# Altium footprint library BMP.PcbLib: 1 footprints
Each footprint in its own frame and in the unit in brackets; x right, y up, seen from the top. Pads: shape width x height; smd on the part's side, far side on the other; paste and mask are expansions set on the pad; w line width, h text height; cw(c..) or ccw(c..) is an arc to the next point about the centre after c.
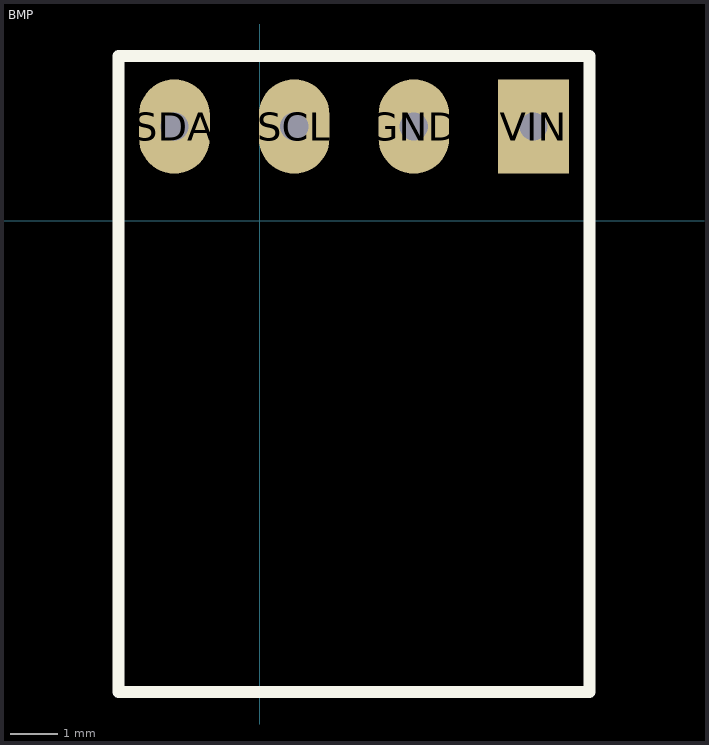
[diagram p0: the footprint, top view; thin cyan lines are the x and y axes]

## BMP [mm]
pads (4):
  oval 1.5x2 hole 0.6: GND(3.27,2) SCL(0.73,2) SDA(-1.81,2)
  rect 1.5x2 hole 0.6: VIN(5.81,2)
Top Overlay:
  lines w0.254: -3,-10 -3,3.5 7,3.5 7,-10 -3,-10
3D body "BMP.SLDPRT": height 2.66, standoff 0, extent -3.45,-9.65 7,3.65